# Altium integrated library TI Power Management Power Modules.IntLib: 831 symbols (part 44 of 44)
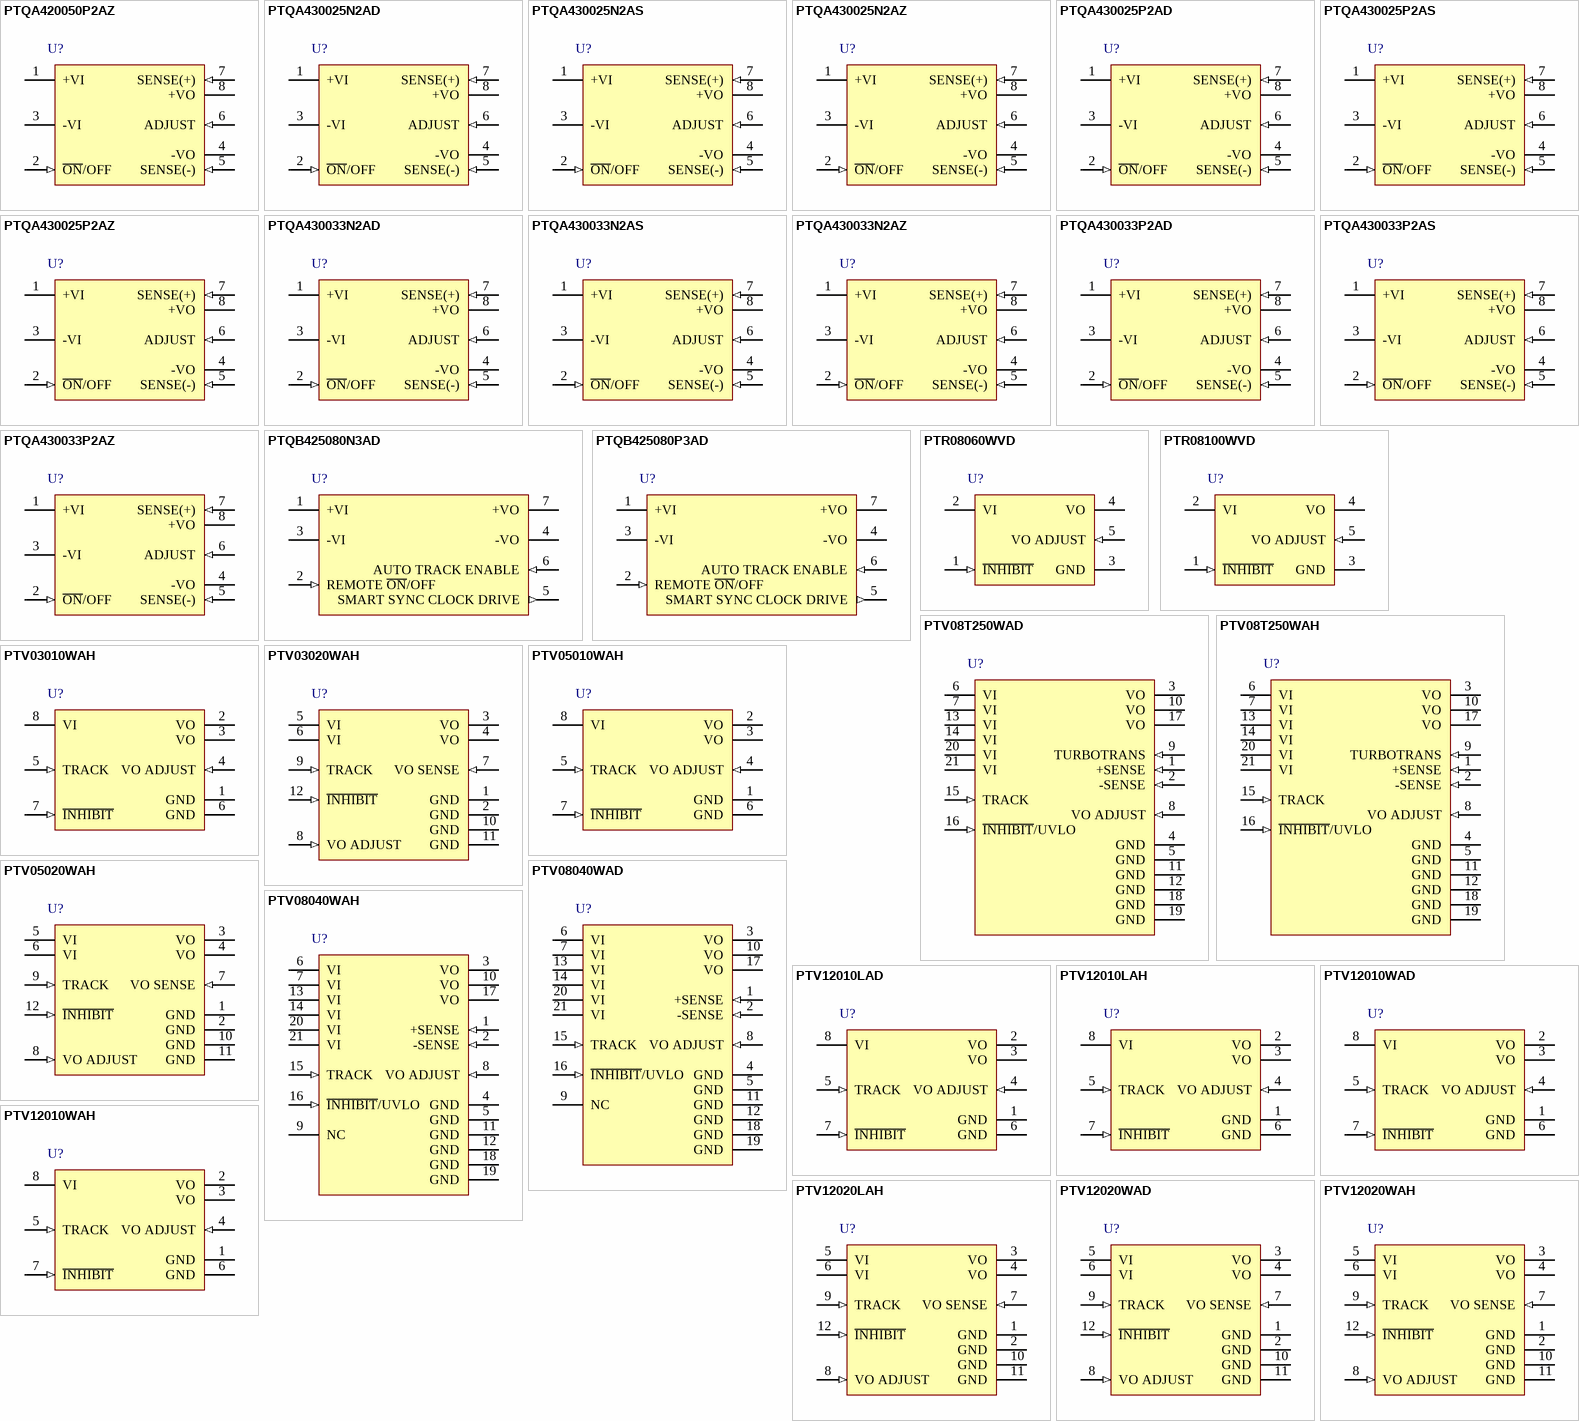
[diagram p66: symbols PTQA420050P2AZ to PTV12020WAH]

## PTV12020WAH
designator U?
1.2 to 5.5 V Vout, 16 A, 12 V Input, Non-Isolated Wide Adjust SIP Module, -40 to 85 degC, 12-pin Module (EVC12), Pb-Free (RoHS); Manufacturer: Texas Instruments; PartNumber: PTV12020WAH; Iout(Max)(A): 16; Regulated Outputs(#): 1; SubFamily: Non-Isolated POL; Vin(Max)(V): 13.2; Vin(Min)(V): 10.8; VO Adjustable: TRUE; Vout(Max)(V): 5.5; Vout(Min)(V): 1.2; DatasheetVersion: SLTS231C; PackageVersion: 4205910/B; PackageReference: EVC12; PackageDescription: 12-Pin Plastic Special Shape, Body 12.7 x 44.45 mm; Supplier 1: Digi-Key; Supplier Part Number 1: 296-20534-ND; Supplier 2: Newark; Supplier Part Number 2: 71J7328; Supplier 3: Mouser; Supplier Part Number 3: 595-PTV12020WAH; Eco-Plan: Pb-Free (RoHS); Mounting Technology: Surface Mount; ComponentLink1Description: Manufacturer URL; ComponentLink1URL: http://www.ti.com/; ComponentLink2Description: Datasheet; ComponentLink2URL: http://www.ti.com/general/docs/lit/getliterature.tsp?genericPartNumber=PTV12020W&fileType=pdf; ComponentLink3Description: Package Specification; ComponentLink3URL: http://www.ti.com/lit/ml/mpds164a/mpds164a.pdf; ComponentLink4Description: URL Link1; ComponentLink4URL: Samples URL:http://www.ti.com/product/ptv12020w#samples
footprint TI-EVC12_V (12-Leads Double Sided Module, Body 44.45x9.39mm)
pins: 1 GND (power) "This  is the common ground connection for the VI and VO power connections. It is also the 0-Vdc reference for the control inputs.", 2 GND (power) "This  is the common ground connection for the VI and VO power connections. It is also the 0-Vdc reference for the control inputs.", 3 VO (power) "The regulated positive power output with respect to the GND node.", 4 VO (power) "The regulated positive power output with respect to the GND node.", 5 VI (power) "The positive input voltage power node to the module, which is referenced to common GND.", 6 VI (power) "The positive input voltage power node to the module, which is referenced to common GND.", 7 VO SENSE (in) "The sense input allows the regulation circuit to compensate for voltage drop between the module and the load. For optime voltage accuracy VO Sense should be connected to VO . It can also be left disconnected.", 8 VO ADJUST (in) "A 1% resistor must be connected directly between this pin and GND (pin 1 or 2) to set the output voltage of the module higher than its lowest value. The temperature stability of the resistor should be 100 ppm/degreesC (or (See Datasheet)", 9 TRACK (in) "This is an analog control input that enables the output voltage to follow an external voltage. This pin becomes active typically 20 ms after the input voltage has been applied, and allows direct control of the output voltage (See Datasheet)", 10 GND (power) "This  is the common ground connection for the VI and VO power connections. It is also the 0-Vdc reference for the control inputs.", 11 GND (power) "This  is the common ground connection for the VI and VO power connections. It is also the 0-Vdc reference for the control inputs.", 12 ~{INHIBIT} (in) "The Inhibit pin is an open-collector/drain, active-low input that is referenced to GND. Applying a low-level ground signal to this input disables the module's output and turns off the output voltage. when the Inhibit control (See Datasheet)"